# Altium footprint library Inductor.PcbLib: 39 footprints (part 1 of 3)
Each footprint in its own frame and in the unit in brackets; x right, y up, seen from the top. Pads: shape width x height; smd on the part's side, far side on the other; paste and mask are expansions set on the pad; w line width, h text height; cw(c..) or ccw(c..) is an arc to the next point about the centre after c.
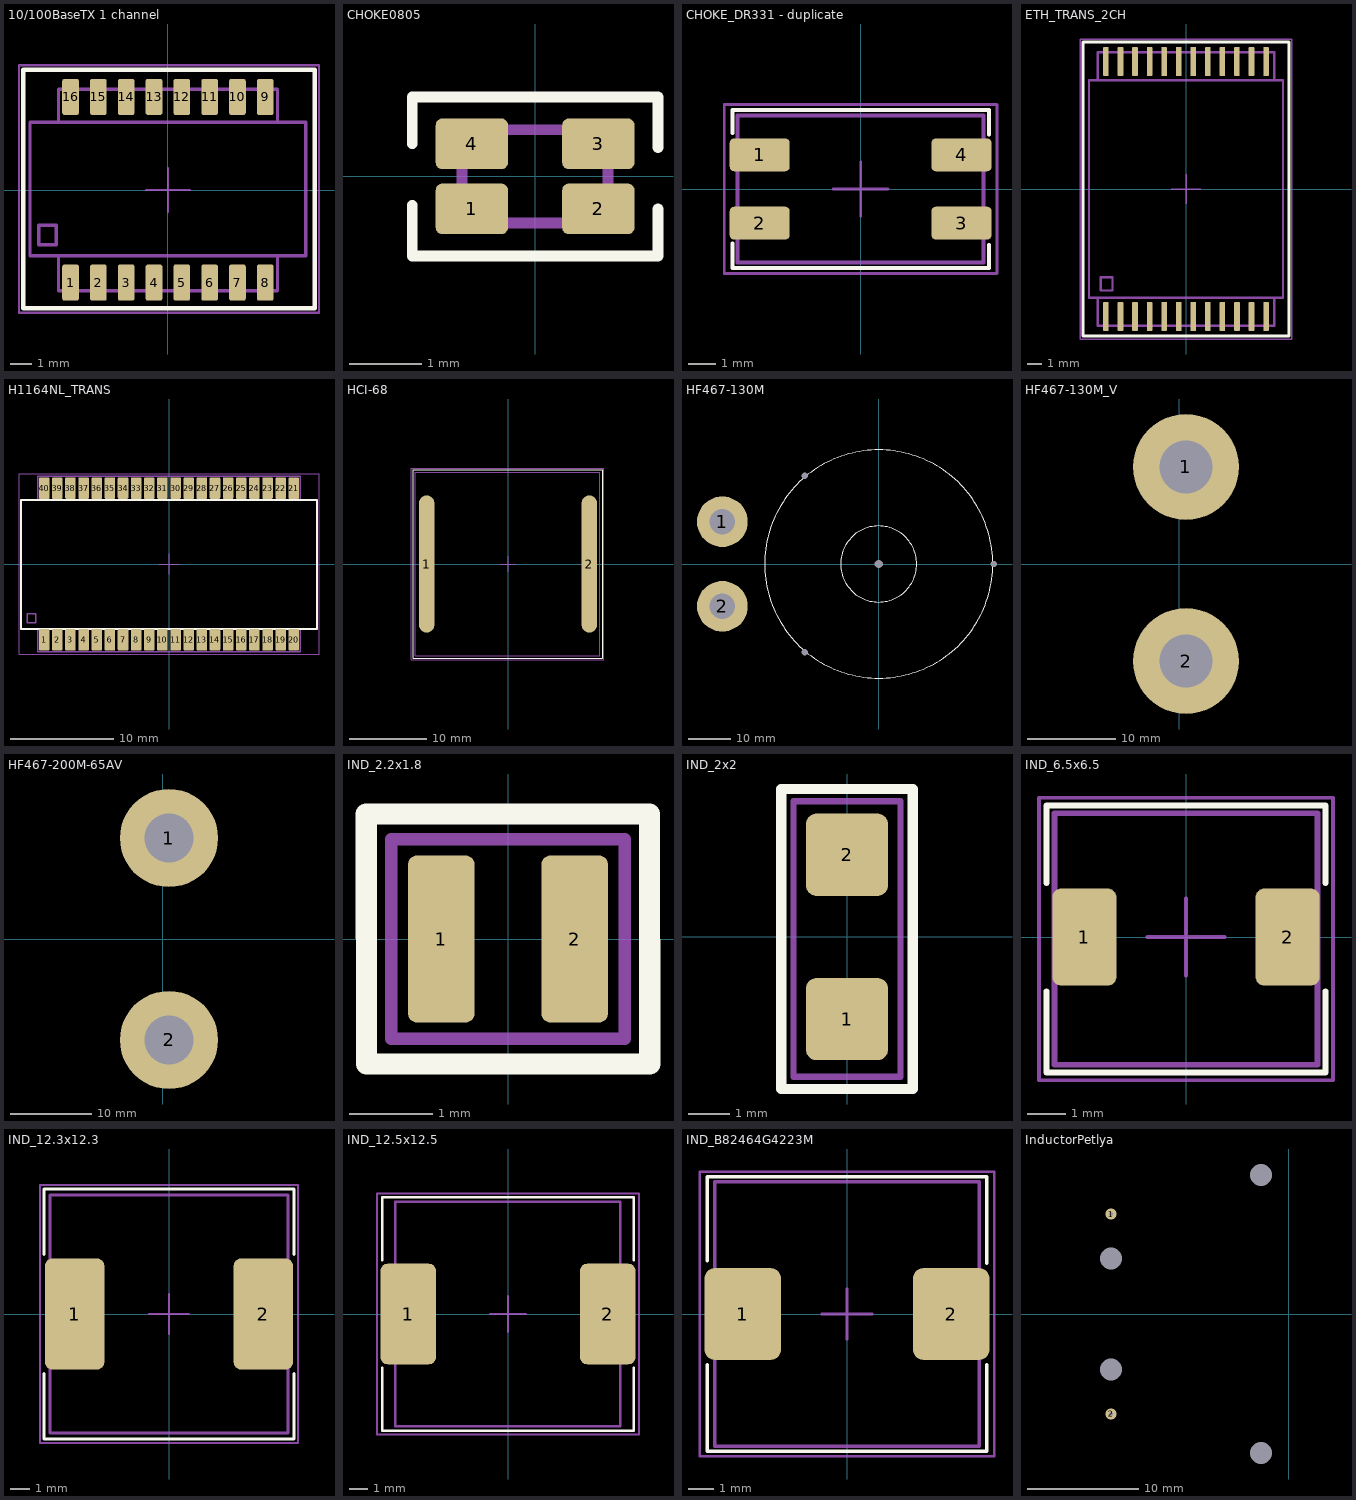
[diagram p0: the footprints below, top view; thin cyan lines are the x and y axes]

## 10/100BaseTX 1 channel [mm]
pads (16):
  rrect25% 0.76x1.65 smd: 1(-4.445,-4.225) 2(-3.175,-4.225) 3(-1.905,-4.225) 4(-0.635,-4.225) 5(0.635,-4.225) 6(1.905,-4.225) 7(3.175,-4.225) 8(4.445,-4.225) 9(4.445,4.255) 10(3.175,4.255) 11(1.905,4.255) 12(0.635,4.255) 13(-0.635,4.255) 14(-1.905,4.255) 15(-3.175,4.255) 16(-4.445,4.255)
Top Overlay:
  lines w0.2: -6.6,-5.4 -6.6,5.5 6.7,5.5 6.7,-5.4 -6.6,-5.4
Mechanical 9:
  text ".Designator" at -5.2,6.7 h3.5
Mechanical 10:
  text ".Comment" at -3.4,-7.3 h2
Mechanical 11:
  lines w0.15: -5,-3.1 -5,-4.6 5,-4.6 5,-3.1 ; -5,3.1 -5,4.6 5,4.6 5,3.1 ; -5.9,-2.5 -5.9,-1.6 -5.1,-1.6 -5.1,-2.5 -5.9,-2.5 ; -5.9,-2.5 -5.9,-2.5 ; -6.3,-3 -6.3,3.1 6.3,3.1 6.3,-3 -6.3,-3
Mechanical 15:
  lines w0.1: -1,0 1,0 ; 0,-1 0,1 ; -6.8,-5.6 -6.8,5.7 6.9,5.7 6.9,-5.6 -6.8,-5.6
3D body "User Library-trans_HX1188FNL.step": height 6, standoff 0, extent -6.35,-4.659 6.35,4.659

## CHOKE0805 [mm]
pads (5):
  rrect25% 0.5x0.5 on Top Overlay: 0(-2.2,-1.2)
  rrect25% 1x0.7 smd: 1(-0.875,-0.45) 2(0.875,-0.45) 3(0.875,0.45) 4(-0.875,0.45)
Top Overlay:
  lines w0.15: -1.7,-0.4 -1.7,-1.1 1.7,-1.1 1.7,-0.45 ; -1.7,0.45 -1.7,1.1 1.7,1.1 1.7,0.4
Mechanical 9:
  text ".Designator" at 1.01,1.5 h0.8
  text ".Comment" at 0.2,2 h0.8
Mechanical 11:
  lines w0.15: -1.01,-0.2 -1.01,-0.645 ; -1.01,-0.645 1.01,-0.645 1.01,0.645 -1.01,0.645 -1.01,-0.645
3D body "Coilcraft-0805USB.step": height 1.64, standoff -0.01, extent -1.01,-0.645 1.01,0.645

## CHOKE_DR331 - duplicate [mm]
pads (5):
  rrect25% 0.8x0.8 on Top Overlay: 0(-5.6,2.5)
  rrect25% 2.2x1.2 smd: 1(-3.7,1.25) 2(-3.7,-1.25) 3(3.7,-1.25) 4(3.7,1.25)
Top Overlay:
  lines w0.15: -4.7,-2 -4.7,-2.9 4.7,-2.9 4.7,-2.05 ; -4.7,2.05 -4.7,2.9 4.7,2.9 4.7,2
Mechanical 9:
  text ".Designator" at -5.4,4.5 h3.5
Mechanical 10:
  text ".Comment" at -1.6,-5.5 h2
Mechanical 11:
  lines w0.15: -4.51,2.69 -4.51,-2.7 4.5,-2.7 4.5,2.69 -4.5,2.69
Mechanical 15:
  lines w0.1: -1,0 1,0 ; 0,-1 0,1 ; -5,-3.1 -5,3.1 5,3.1 5,-3.1 4.9,-3.1 -5,-3.1
3D body "68869.stp": height 5, standoff 0, extent -4.5,-2.7 4.5,2.7

## ETH_TRANS_2CH [mm]
pads (24):
  rrect25% 0.38x1.965 smd: 1(-5.445,-8.668) 2(-4.455,-8.668) 3(-3.465,-8.668) 4(-2.475,-8.668) 5(-1.485,-8.668) 6(-0.495,-8.668) 7(0.495,-8.668) 8(1.485,-8.668) 9(2.475,-8.668) 10(3.465,-8.668) 11(4.455,-8.668) 12(5.445,-8.668) 13(5.445,8.668) 14(4.455,8.668) 15(3.465,8.668) 16(2.475,8.668) 17(1.485,8.668) 18(0.495,8.668) 19(-0.495,8.668) 20(-1.485,8.668) 21(-2.475,8.668) 22(-3.465,8.668) 23(-4.455,8.668) 24(-5.445,8.668)
Top Overlay:
  lines w0.2: -7,-10 7,-10 7,10 -7,10 -7,-10
Mechanical 9:
  text ".Designator" at -6.1,11.3 h3.5
Mechanical 10:
  text ".Comment" at -3.2,-11.8 h2
Mechanical 11:
  lines w0.15: -6,-7.4 -6,-9.3 6,-9.3 6,-7.4 ; -6,7.4 -6,9.3 6,9.3 6,7.4 ; -5.8,-6.9 -5,-6.9 -5,-6 -5.8,-6 -5.8,-6.9 ; -5.8,-6.9 -5.8,-6.9 ; -6.6,-7.4 6.6,-7.4 6.6,7.4 -6.6,7.4 -6.6,-7.4
Mechanical 15:
  lines w0.1: -1,0 1,0 ; 0,-1 0,1 ; -7.2,-10.2 -7.2,10.2 7.2,10.2 7.2,-10.2 -7.2,-10.2
3D body: height 0.5, standoff 0, extent 5.275,7.4 5.625,9.1
3D body: height 0.5, standoff 0, extent 4.285,7.4 4.635,9.1
3D body: height 0.5, standoff 0, extent 3.295,7.4 3.645,9.1
3D body: height 0.5, standoff 0, extent 2.305,7.4 2.655,9.1
3D body: height 0.5, standoff 0, extent 1.315,7.4 1.665,9.1
3D body: height 0.5, standoff 0, extent 0.325,7.4 0.675,9.1
3D body: height 0.5, standoff 0, extent -0.665,7.4 -0.315,9.1
3D body: height 0.5, standoff 0, extent -1.655,7.4 -1.305,9.1
3D body: height 0.5, standoff 0, extent -2.645,7.4 -2.295,9.1
3D body: height 0.5, standoff 0, extent -3.635,7.4 -3.285,9.1
3D body: height 0.5, standoff 0, extent -4.625,7.4 -4.275,9.1
3D body: height 0.5, standoff 0, extent -5.615,7.4 -5.265,9.1
3D body: height 0.5, standoff 0, extent 5.265,-9.1 5.615,-7.4
3D body: height 0.5, standoff 0, extent 4.275,-9.1 4.625,-7.4
3D body: height 0.5, standoff 0, extent 3.285,-9.1 3.635,-7.4
3D body: height 0.5, standoff 0, extent 2.295,-9.1 2.645,-7.4
3D body: height 0.5, standoff 0, extent 1.305,-9.1 1.655,-7.4
3D body: height 0.5, standoff 0, extent 0.315,-9.1 0.665,-7.4
3D body: height 0.5, standoff 0, extent -0.675,-9.1 -0.325,-7.4
3D body: height 0.5, standoff 0, extent -1.665,-9.1 -1.315,-7.4
3D body: height 0.5, standoff 0, extent -2.655,-9.1 -2.305,-7.4
3D body: height 0.5, standoff 0, extent -3.645,-9.1 -3.295,-7.4
3D body: height 0.5, standoff 0, extent -4.635,-9.1 -4.285,-7.4
3D body: height 0.5, standoff 0, extent -5.625,-9.1 -5.275,-7.4
3D body: height 6, standoff 0, extent -6.6,-7.4 6.6,7.4

## H1164NL_TRANS [mm]
pads (42):
  rrect25% 1x1 on Top Overlay: 0(-13.8,-7.2) 0(-13.3,-5.2)
  rrect25% 1.02x2.095 smd: 1(-12.065,-7.332) 2(-10.795,-7.333) 3(-9.525,-7.332) 4(-8.255,-7.333) 5(-6.985,-7.332) 6(-5.715,-7.332) 7(-4.445,-7.332) 8(-3.175,-7.332) 9(-1.905,-7.332) 10(-0.635,-7.332) 11(0.635,-7.332) 12(1.905,-7.332) 13(3.175,-7.332) 14(4.445,-7.332) 15(5.715,-7.332) 16(6.985,-7.333) 17(8.255,-7.332) 18(9.525,-7.332) 19(10.795,-7.332) 20(12.065,-7.332) 21(12.065,7.332) 22(10.795,7.333) 23(9.525,7.333) 24(8.255,7.333) 25(6.985,7.332) 26(5.715,7.332) 27(4.445,7.332) 28(3.175,7.332) 29(1.905,7.332) 30(0.635,7.332) 31(-0.635,7.332) 32(-1.905,7.332) 33(-3.175,7.333) 34(-4.445,7.332) 35(-5.715,7.333) 36(-6.985,7.333) 37(-8.255,7.332) 38(-9.525,7.333) 39(-10.795,7.332) 40(-12.065,7.332)
Top Overlay:
  lines w0.2: -14.3,-6.3 -14.3,6.2 -12.8,6.2 14.3,6.2 14.3,-6.3 -12.7,-6.3 -14.3,-6.3
Mechanical 7:
  lines w0.15: -12.7,-6.3 -12.7,-8.5 12.7,-8.5 12.7,-6.3 ; -12.7,6.3 -12.7,8.5 12.7,8.5 12.7,6.3 ; -13.7,-5.7 -13.7,-4.8 -12.9,-4.8 -12.9,-5.7 -13.7,-5.7 ; -13.7,-5.7 -13.7,-5.7 ; -14.3,-6.3 -14.3,6.2 14.3,6.2 14.3,-6.3 -14.3,-6.3
Mechanical 9:
  text ".Designator" at -4.5,9.8 h3.5
Mechanical 10:
  text ".Comment" at -1.905,-10.8 h2
Mechanical 15:
  lines w0.1: -1,0 1,0 ; 0,-1 0,1 ; -14.5,-8.7 -14.5,8.7 14.5,8.7 14.5,-8.7 -14.5,-8.7
3D body "User Library-H1164NL.STEP": height 5.84, standoff 0, extent -14.29,-8 14.29,8

## HCI-68 [mm]
pads (2):
  oval 2.03x17.78 smd: 1(-10.54,0) 2(10.54,0)
Top Overlay:
  lines w0.15: -12.3,-12.2 12.2,-12.2 12.2,12.2 -12.3,12.2 -12.3,-12.2
Mechanical 7:
  lines w0.15: -12,-11.9 11.9,-11.9 11.9,11.9 -12,11.9 -12,-11.9
Mechanical 9:
  text ".Designator" at -5.7,12.7 h3
Mechanical 10:
  text ".Comment" at -3.5,-13.4 h2
Mechanical 15:
  lines w0.1: -1,0 1,0 ; 0,-1 0,1 ; -12.5,-12.4 12.4,-12.4 12.4,12.4 -12.5,12.4 -12.5,-12.4
3D body: height 10.16, standoff 0, extent -12,-11.9 11.9,11.9

## HF467-130M [mm]
pads (6):
  round 12 hole 6: 1(-37,10) 2(-37,-10)
  round 0 hole 1.5 unplated: ""(-17.516,20.875) ""(-17.516,-20.875) ""(27.25,0)
  round 0 hole 2 unplated: ""(0,0)
Top Overlay:
  circle w0.2: c0,0 r9
  circle w0.2: c0,0 r27
3D body "HF467-130M-80AV REV.A.STEP": height 24.53, standoff 0.45, extent -48.334,-25.979 26.334,26.75

## HF467-130M_V [mm]
pads (2):
  round 12 hole 6: 1(0.75,11) 2(0.75,-11)
3D body "HF467-130M-80AV REV.A.STEP": height 50.38, standoff -24.29, extent -26.614,-12.08 26.114,12

## HF467-200M-65AV [mm]
pads (2):
  round 12 hole 6: 1(0.75,12.35) 2(0.75,-12.35)
3D body "Дроссель HF467-200M-65AV.STEP": height 56, standoff -19, extent -27.249,-13.75 28.749,13.75

## IND_2.2x1.8 [mm]
pads (2):
  rrect25% 0.8x2 smd: 1(-0.8,0) 2(0.8,0)
Top Overlay:
  lines w0.254: -1.7,-1.5 -1.7,1.5 1.7,1.5 1.7,-1.5 -1.7,-1.5
Mechanical 7:
  lines w0.15: -1.4,-1.2 -1.4,1.2 1.4,1.2 1.4,-1.2 -1.4,-1.2
3D body: height 1, standoff 0, extent -1,-0.8 1,0.8

## IND_2x2 [mm]
pads (2):
  rrect25% 2x2 smd: 1(0,-2) 2(0,2)
Top Overlay:
  lines w0.254: -1.6,-3.7 1.6,-3.7 1.6,3.6 -1.6,3.6 -1.6,-3.7
Mechanical 7:
  lines w0.15: -1.3,-3.4 1.3,-3.4 1.3,3.3 -1.3,3.3 -1.3,-3.4

## IND_6.5x6.5 [mm]
pads (2):
  rrect25% 1.65x2.5 smd: 1(-2.625,0) 2(2.625,0)
Top Overlay:
  lines w0.15: -3.6,-1.4 -3.6,-3.5 3.6,-3.5 3.6,-1.4 ; -3.6,1.4 -3.6,3.4 3.6,3.4 3.6,1.4
Mechanical 7:
  lines w0.15: -3.4,-3.3 -3.4,3.2 3.4,3.2 3.4,-3.3 -3.4,-3.3
Mechanical 9:
  text ".Designator" at -5.2,4.5 h3
Mechanical 10:
  text ".Comment" at -3.3,-5.2 h2
Mechanical 15:
  lines w0.1: -1,0 1,0 ; 0,-1 0,1 ; -3.8,-3.7 -3.8,3.6 3.8,3.6 3.8,-3.7 -3.8,-3.7
3D body "User Library-HP0603.step": height 3.05, standoff 0.05, extent -3.4,-3.25 3.4,3.25

## IND_12.3x12.3 [mm]
pads (2):
  rrect25% 3x5.6 smd: 1(-4.75,0) 2(4.75,0)
Top Overlay:
  lines w0.15: -6.3,-3 -6.3,-6.3 6.3,-6.3 6.3,-3 ; -6.3,3 -6.3,6.3 6.3,6.3 6.3,3
Mechanical 7:
  lines w0.15: -6,-6 6,-6 6,6 -6,6 -6,-6
Mechanical 9:
  text ".Designator" at -5,7.3 h3
Mechanical 10:
  text ".Comment" at -3.8,-7.9 h2
Mechanical 15:
  lines w0.1: -1,0 1,0 ; 0,-1 0,1 ; -6.5,-6.5 6.5,-6.5 6.5,6.5 -6.5,6.5 -6.5,-6.5
3D body "User Library-WE12x12x10.step": height 10, standoff 0, extent -6,-6 6,6

## IND_12.5x12.5 [mm]
pads (2):
  rrect25% 3.1x5.6 smd: 1(-5.55,0) 2(5.55,0)
Top Overlay:
  lines w0.15: -7,-3 -7,-6.5 7,-6.5 7,-3 ; -7,3 -7,6.5 7,6.5 7,3
Mechanical 7:
  lines w0.15: -6.275,-6.25 6.25,-6.25 6.25,6.25 -6.275,6.25 -6.275,-6.25
Mechanical 9:
  text ".Designator" at -5,7.3 h3
Mechanical 10:
  text ".Comment" at -3.8,-7.9 h2
Mechanical 15:
  lines w0.1: -1,0 1,0 ; 0,-1 0,1 ; -7.3,-6.7 7.3,-6.7 7.3,6.7 -7.3,6.7 -7.3,-6.7
3D body "User Library-DRQ127_12_5x12_5.step": height 8, standoff 0, extent -6.25,-6.25 6.25,6.25

## IND_B82464G4223M [mm]
pads (2):
  rrect25% 3x3.6 smd: 1(-4.1,0) 2(4.1,0)
Top Overlay:
  lines w0.15: -5.5,-2 -5.5,-5.4 5.5,-5.4 5.5,-2 ; -5.5,2.1 -5.5,5.4 5.5,5.4 5.5,2
Mechanical 7:
  lines w0.15: -5.2,-5.2 5.2,-5.2 5.2,5.2 -5.2,5.2 -5.2,-5.2
Mechanical 9:
  text ".Designator" at -4.8,6.3 h3
Mechanical 10:
  text ".Comment" at -3.5,-7 h2
Mechanical 15:
  lines w0.1: -1,0 1,0 ; 0,-1 0,1 ; -5.8,-5.6 -5.8,5.6 5.8,5.6 5.8,-5.6 -5.8,-5.6
3D body "User Library-10x10 SMT Power Inductor.step": height 4.8, standoff 0, extent -5.2,-5.2 5.2,5.2

## InductorPetlya [mm]
pads (6):
  round 1 hole 0.4 unplated: 1(-16,9) 2(-16,-9)
  round 0 hole 2 unplated: ""(-16,-5) ""(-16,5) ""(-2.5,-12.5) ""(-2.5,12.5)
3D body "InductorModule.STEP": height 1.7, standoff -3.3, extent -18.5,-15 0,15